# Altium footprint library Footprint_Shield.PcbLib: 2 footprints
Each footprint in its own frame and in the unit in brackets; x right, y up, seen from the top. Pads: shape width x height; smd on the part's side, far side on the other; paste and mask are expansions set on the pad; w line width, h text height; cw(c..) or ccw(c..) is an arc to the next point about the centre after c.
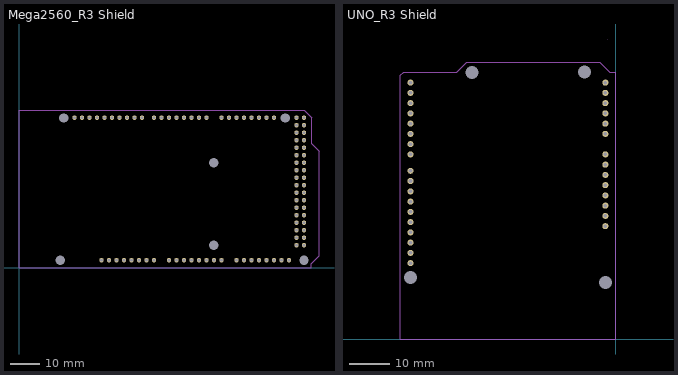
[diagram p0: the footprints below, top view; thin cyan lines are the x and y axes]

## Mega2560_R3 Shield [mm]
pads (92):
  round 1.5 hole 0.9: 1(27.94,2.54) 2(30.48,2.54) 3(33.02,2.54) 4(35.56,2.54) 5(38.1,2.54) 6(40.64,2.54) 7(43.18,2.54) 8(45.72,2.54) 9(50.8,2.54) 10(53.34,2.54) 11(55.88,2.54) 12(58.42,2.54) 13(60.96,2.54) 14(63.5,2.54) 15(66.04,2.54) 16(68.58,2.54) 17(73.66,2.54) 18(76.2,2.54) 19(78.74,2.54) 20(81.28,2.54) 21(83.82,2.54) 22(86.36,2.54) 23(88.9,2.54) 24(91.44,2.54) 25(21.336,50.8) 25(86.36,50.8) 26(18.796,50.8) 26(83.82,50.8) 27(81.28,50.8) 28(78.74,50.8) 29(76.2,50.8) 30(73.66,50.8) 31(71.12,50.8) 32(68.58,50.8) 33(63.5,50.8) 34(60.96,50.8) 35(58.42,50.8) 36(55.88,50.8) 37(53.34,50.8) 38(50.8,50.8) 39(48.26,50.8) 40(45.72,50.8) 41(41.656,50.8) 42(39.116,50.8) 43(36.576,50.8) 44(34.036,50.8) 45(31.496,50.8) 46(28.956,50.8) 47(26.416,50.8) 48(23.876,50.8) 49(93.98,50.8) 50(96.52,50.8) 51(93.98,48.26) 52(96.52,48.26) 53(93.98,45.72) 54(96.52,45.72) 55(93.98,43.18) 56(96.52,43.18) 57(93.98,40.64) 58(96.52,40.64) 59(93.98,38.1) 60(96.52,38.1) 61(93.98,35.56) 62(96.52,35.56) 63(93.98,33.02) 64(96.52,33.02) 65(93.98,30.48) 66(96.52,30.48) 67(93.98,27.94) 68(96.52,27.94) 69(93.98,25.4) 70(96.52,25.4) 71(93.98,22.86) 72(96.52,22.86) 73(93.98,20.32) 74(96.52,20.32) 75(93.98,17.78) 76(96.52,17.78) 77(93.98,15.24) 78(96.52,15.24) 79(93.98,12.7) 80(96.52,12.7) 81(93.98,10.16) 82(96.52,10.16) 83(93.98,7.62) 84(96.52,7.62)
  round 0 hole 3.2 unplated: ""(14,2.5) ""(15.2,50.7) ""(66,7.6) ""(66,35.5) ""(90.1,50.7) ""(96.52,2.54)
Mechanical 13:
  lines w0.2: 101.591,3.861 99,1.27 99,0 0,0 0,53.3 96.52,53.3 99.111,50.709 99.111,49.86 99.111,41.989 101.6,39.5 101.6,3.861

## UNO_R3 Shield [mm]
pads (36):
  round 1.5 hole 0.9: 1(-2.54,27.94) 2(-2.54,30.48) 3(-2.54,33.02) 4(-2.54,35.56) 5(-2.54,38.1) 6(-2.54,40.64) 7(-2.54,43.18) 8(-2.54,45.72) 9(-2.54,50.8) 10(-2.54,53.34) 11(-2.54,55.88) 12(-2.54,58.42) 13(-2.54,60.96) 14(-2.54,63.5) 15(-50.8,63.5) 16(-50.8,60.96) 17(-50.8,58.42) 18(-50.8,55.88) 19(-50.8,53.34) 20(-50.8,50.8) 21(-50.8,48.26) 22(-50.8,45.72) 23(-50.8,41.656) 24(-50.8,39.116) 25(-50.8,36.576) 26(-50.8,34.036) 27(-50.8,31.496) 28(-50.8,28.956) 29(-50.8,26.416) 30(-50.8,23.876) 31(-50.8,21.336) 32(-50.8,18.796)
  round 0 hole 3.2 unplated: ""(-50.8,15.24) ""(-35.56,66.04) ""(-7.7,66.1) ""(-2.54,13.97)
Mechanical 13:
  lines w0.2: -53.3,0 0,0 0,66.1 -1.4,66.1 -3.9,68.6 -36.9,68.6 -39.4,66.1 -52.5,66.1 -53.3,65.3 -53.3,0
Mechanical 15:
  lines w0.2: -2,74.2 -1.9,74.3